# Altium schematic symbol library DAC7634E.SchLib: 2 symbols
Pins are listed as number, name and electrical type; pins without a type are passive.

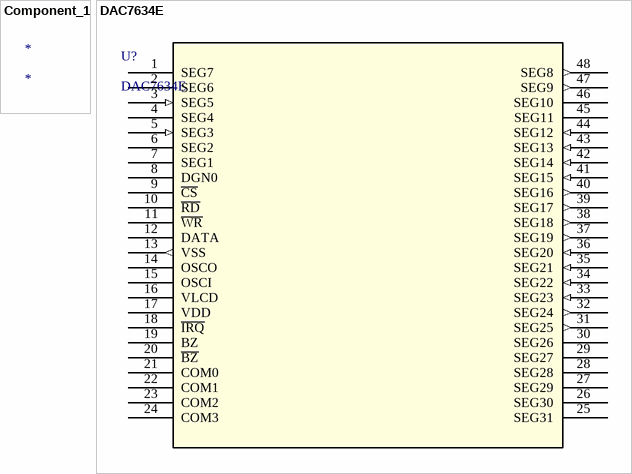
[diagram p0: symbols Component_1 to DAC7634E]

## Component_1
designator *

## DAC7634E
designator U?
No Description Available; Mfr_Name: Texas Instruments; Copyright: Copyright (C) 2022 Ultra Librarian. All rights reserved.; Manufacturer_Part_Number: DAC7634E; RefDes: RefDes; Type: DEV
footprint DL48
pins: 1 SEG7, 2 SEG6, 3 SEG5 (in), 4 SEG4 (power), 5 SEG3 (in), 6 SEG2 (power), 7 SEG1, 8 DGN0 (power), 9 ~{CS}, 10 ~{RD} (power), 11 ~{WR}, 12 DATA (power), 13 VSS (out), 14 OSCO (power), 15 OSCI, 16 VLCD (power), 17 VDD, 18 ~{IRQ} (power), 19 BZ, 20 ~{BZ}, 21 COM0 (power), 22 COM1 (power), 23 COM2 (power), 24 COM3 (power), 25 SEG31 (power), 26 SEG30 (power), 27 SEG29 (power), 28 SEG28 (power), 29 SEG27 (power), 30 SEG26 (power), 31 SEG25 (out), 32 SEG24 (out), 33 SEG23 (in), 34 SEG22 (in), 35 SEG21 (in), 36 SEG20 (in), 37 SEG19 (out), 38 SEG18 (out), 39 SEG17 (out), 40 SEG16 (out), 41 SEG15 (in), 42 SEG14 (in), 43 SEG13 (in), 44 SEG12 (in), 45 SEG11 (power), 46 SEG10 (power), 47 SEG9 (out), 48 SEG8 (out)